# EAGLE library part SMT_MECH_6 (library dpx-con-CUSTOM)
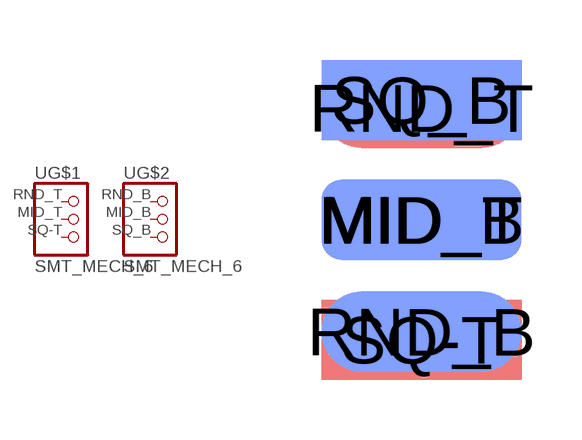
[diagram p1: symbol with the pads of 3-MECH_TB; footprint 3-MECH_TB]

Designator prefix -; gates G$1=PINHD3 G$2=PINHD3

## SMT_MECH_6TB  [3-MECH_TB]
MID_B  G$2:2  pas
MID_T  G$1:2  pas
RND_B  G$2:1  pas
RND_T  G$1:1  pas
SQ-T  G$1:3  pas
SQ_B  G$2:3  pas

## Footprint 3-MECH_TB (pad centres in mm)
smd 5 x 2 bottom: MID_B 0,0; RND_B 0,-2.8; SQ_B 0,3
smd 5 x 2: MID_T 0,0; RND_T 0,2.8; SQ-T 0,-3